# Altium footprint library sar20-motor-driver.PcbLib: 18 footprints (part 2 of 2)
Each footprint in its own frame and in the unit in brackets; x right, y up, seen from the top. Pads: shape width x height; smd on the part's side, far side on the other; paste and mask are expansions set on the pad; w line width, h text height; cw(c..) or ccw(c..) is an arc to the next point about the centre after c.
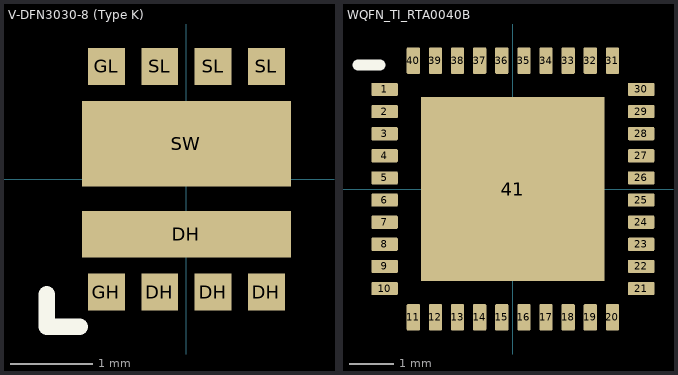
[diagram p1: the footprints below, top view; thin cyan lines are the x and y axes]

## V-DFN3030-8 (Type K) [mm]
pads (10):
  rect 0.45x0.45 smd paste+0 mask+0.102: DH(-0.325,-1.375) DH(0.325,-1.375) DH(0.975,-1.375) GH(-0.975,-1.375) GL(-0.975,1.375) SL(-0.325,1.375) SL(0.325,1.375) SL(0.975,1.375)
  rect 2.55x0.566 smd paste+0 mask+0.102: DH(0,-0.672)
  rect 2.55x1.044 smd paste+0 mask+0.102: SW(0,0.433)
Top Overlay:
  lines w0.2: -1.7,-1.4 -1.7,-1.8 -1.3,-1.8
3D body: height 13, standoff 0, extent 0,0 0,0
3D body: height 0.85, standoff 0, extent -1.5,-1.5 1.5,1.5

## WQFN_TI_RTA0040B [mm]
pads (41):
  rrect20% 0.6x0.3 smd: 1(-2.9,2.25) 2(-2.9,1.75) 3(-2.9,1.25) 4(-2.9,0.75) 5(-2.9,0.25) 6(-2.9,-0.25) 7(-2.9,-0.75) 8(-2.9,-1.25) 9(-2.9,-1.75) 10(-2.9,-2.25) 21(2.9,-2.25) 22(2.9,-1.75) 23(2.9,-1.25) 24(2.9,-0.75) 25(2.9,-0.25) 26(2.9,0.25) 27(2.9,0.75) 28(2.9,1.25) 29(2.9,1.75) 30(2.9,2.25)
  rrect20% 0.3x0.6 smd: 11(-2.25,-2.9) 12(-1.75,-2.9) 13(-1.25,-2.9) 14(-0.75,-2.9) 15(-0.25,-2.9) 16(0.25,-2.9) 17(0.75,-2.9) 18(1.25,-2.9) 19(1.75,-2.9) 20(2.25,-2.9) 31(2.25,2.9) 32(1.75,2.9) 33(1.25,2.9) 34(0.75,2.9) 35(0.25,2.9) 36(-0.25,2.9) 37(-0.75,2.9) 38(-1.25,2.9) 39(-1.75,2.9) 40(-2.25,2.9)
  rect 4.15x4.15 smd: 41(0,0)
Top Overlay:
  lines w0.254: -3.5,2.8 -3,2.8
3D body "RTA0040B.stp": height 1, standoff 0, extent -3,-3 3,3